# Altium footprint library STL10N3LLH5.PcbLib: 1 footprints
Each footprint in its own frame and in the unit in brackets; x right, y up, seen from the top. Pads: shape width x height; smd on the part's side, far side on the other; paste and mask are expansions set on the pad; w line width, h text height; cw(c..) or ccw(c..) is an arc to the next point about the centre after c.
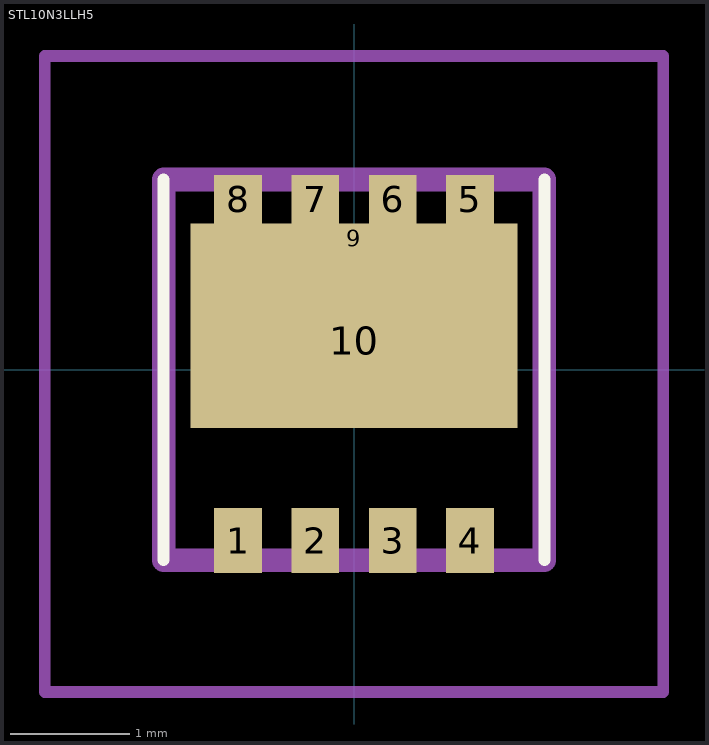
[diagram p0: the footprint, top view; thin cyan lines are the x and y axes]

## STL10N3LLH5 [mm]
pads (10):
  rect 0.4x0.55 smd: 1(-0.975,-1.435) 2(-0.325,-1.435) 3(0.325,-1.435) 4(0.975,-1.435)
  rect 0.4x0.41 smd: 5(0.975,1.435) 6(0.325,1.435) 7(-0.325,1.435) 8(-0.975,1.435)
  rect 2.75x0.25 smd: 9(0,1.105)
  rect 2.75x1.47 smd: 10(0,0.245)
Top Overlay:
  lines w0.1: -1.6,-1.6 -1.6,1.6 ; 1.6,-1.6 1.6,1.6
Mechanical 15:
  lines w0.2: -1.6,-1.6 -1.6,1.6 1.6,1.6 1.6,-1.6 -1.6,-1.6
Mechanical 20:
  lines w0.1: -2.6,-2.71 -2.6,2.64 2.6,2.64 2.6,-2.71 -2.6,-2.71
3D body "STL10N3LLH5.stp": height 1.1, standoff 0, extent -1.6,-1.67 1.6,1.6